# EAGLE library part SI-46001-F (library Bauteile)
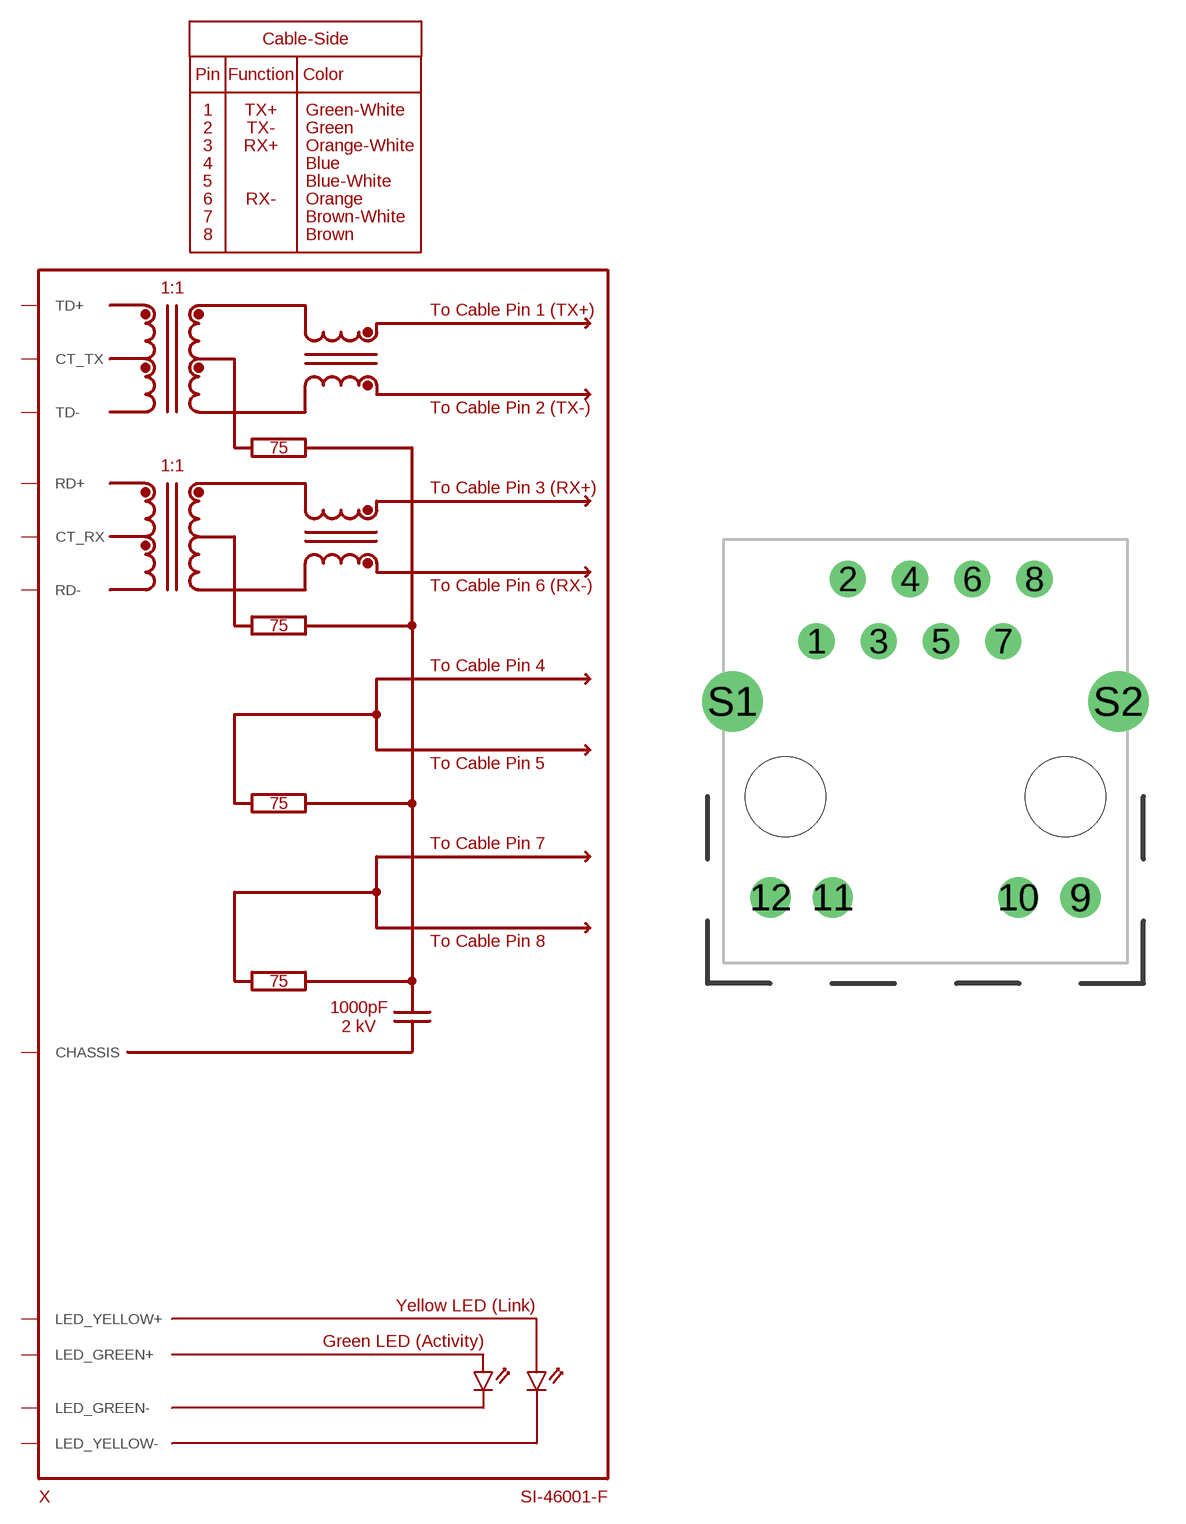
[diagram p149: symbol with the pads of SI-46001-F; footprint SI-46001-F]

Designator prefix X

## SI-46001-F  [SI-46001-F]
1  TD+
2  CT_TX
3  TD-
4  RD+
5  CT_RX
6  RD-
8  CHASSIS
9  LED_GREEN-
10  LED_GREEN+
11  LED_YELLOW-
12  LED_YELLOW+
S1  CHASSIS
S2  CHASSIS

## Footprint SI-46001-F (pad centres in mm)
drill 0.97: 1 -4.445,6.35; 2 -3.175,8.89; 3 -1.905,6.35; 4 -0.635,8.89; 5 0.635,6.35; 6 1.905,8.89; 7 3.175,6.35; 8 4.445,8.89
drill 1.1: 9 6.325,-4.11; 10 3.785,-4.11; 11 -3.785,-4.11; 12 -6.325,-4.11
drill 1.65: S1 -7.875,3.89; S2 7.875,3.89
hole 3.26 at -5.715,0
hole 3.26 at 5.715,0